# EAGLE library part DS04E (library switch)
DIL/CODE SWITCH
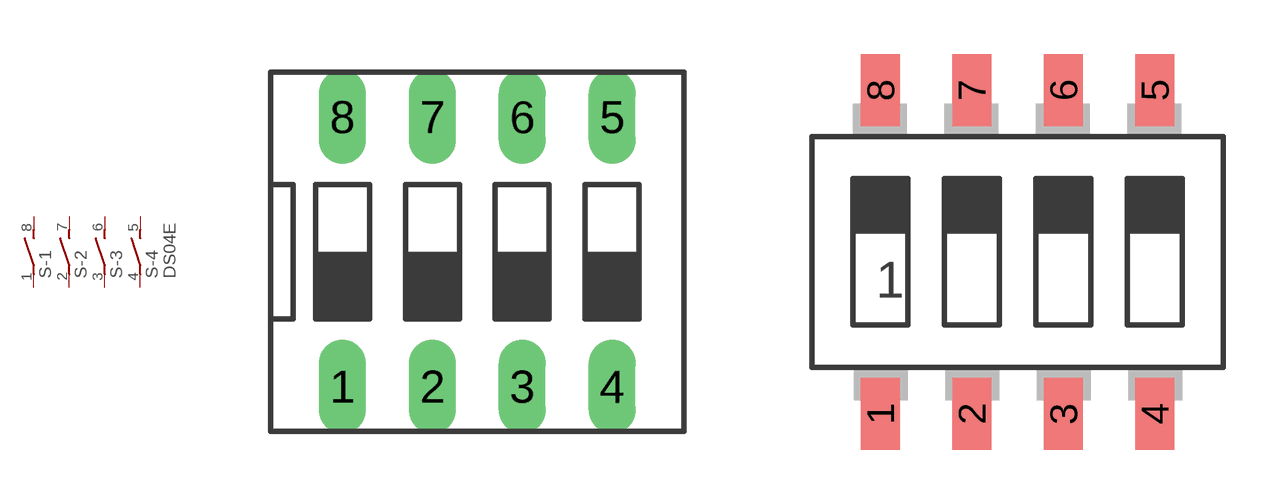
[diagram p1: symbol with the pads of DS-04; footprints DS-04, SMS-004]

Designator prefix S; gates -1=S -2=S -3=S -4=S+V

## DS04E  [DS-04]
1  -1:1  pas
2  -2:1  pas
3  -3:1  pas
4  -4:1  pas
5  -4:2  pas
6  -3:2  pas
7  -2:2  pas
8  -1:2  pas

## DS04ESMT  [SMS-004]
Pads as for DS-04

## DS04ESMT50  [GDH-004]
Pads as for DS-04

## Footprint DS-04 (pad centres in mm)
DIL/CODE SWITCH Mors distributor Buerklin, 17G554
drill 0.813 long: 1 -3.81,-3.81; 2 -1.27,-3.81; 3 1.27,-3.81; 4 3.81,-3.81; 5 3.81,3.81; 6 1.27,3.81; 7 -1.27,3.81; 8 -3.81,3.81

## Footprint SMS-004 (pad centres in mm)
DIP SWITCH
smd 1.092 x 2.007: 1 -3.81,-4.496; 2 -1.27,-4.496; 3 1.27,-4.496; 4 3.81,-4.496; 5 3.81,4.496; 6 1.27,4.496; 7 -1.27,4.496; 8 -3.81,4.496

## Footprint GDH-004 (pad centres in mm)
DIP SWITCH
smd 0.762 x 1.27: 1 -1.905,-3.734; 2 -0.635,-3.734; 3 0.635,-3.734; 4 1.905,-3.734; 5 1.905,3.734; 6 0.635,3.734; 7 -0.635,3.734; 8 -1.905,3.734